# Altium integrated library Actel Fusion.IntLib: 336 symbols (part 53 of 69)

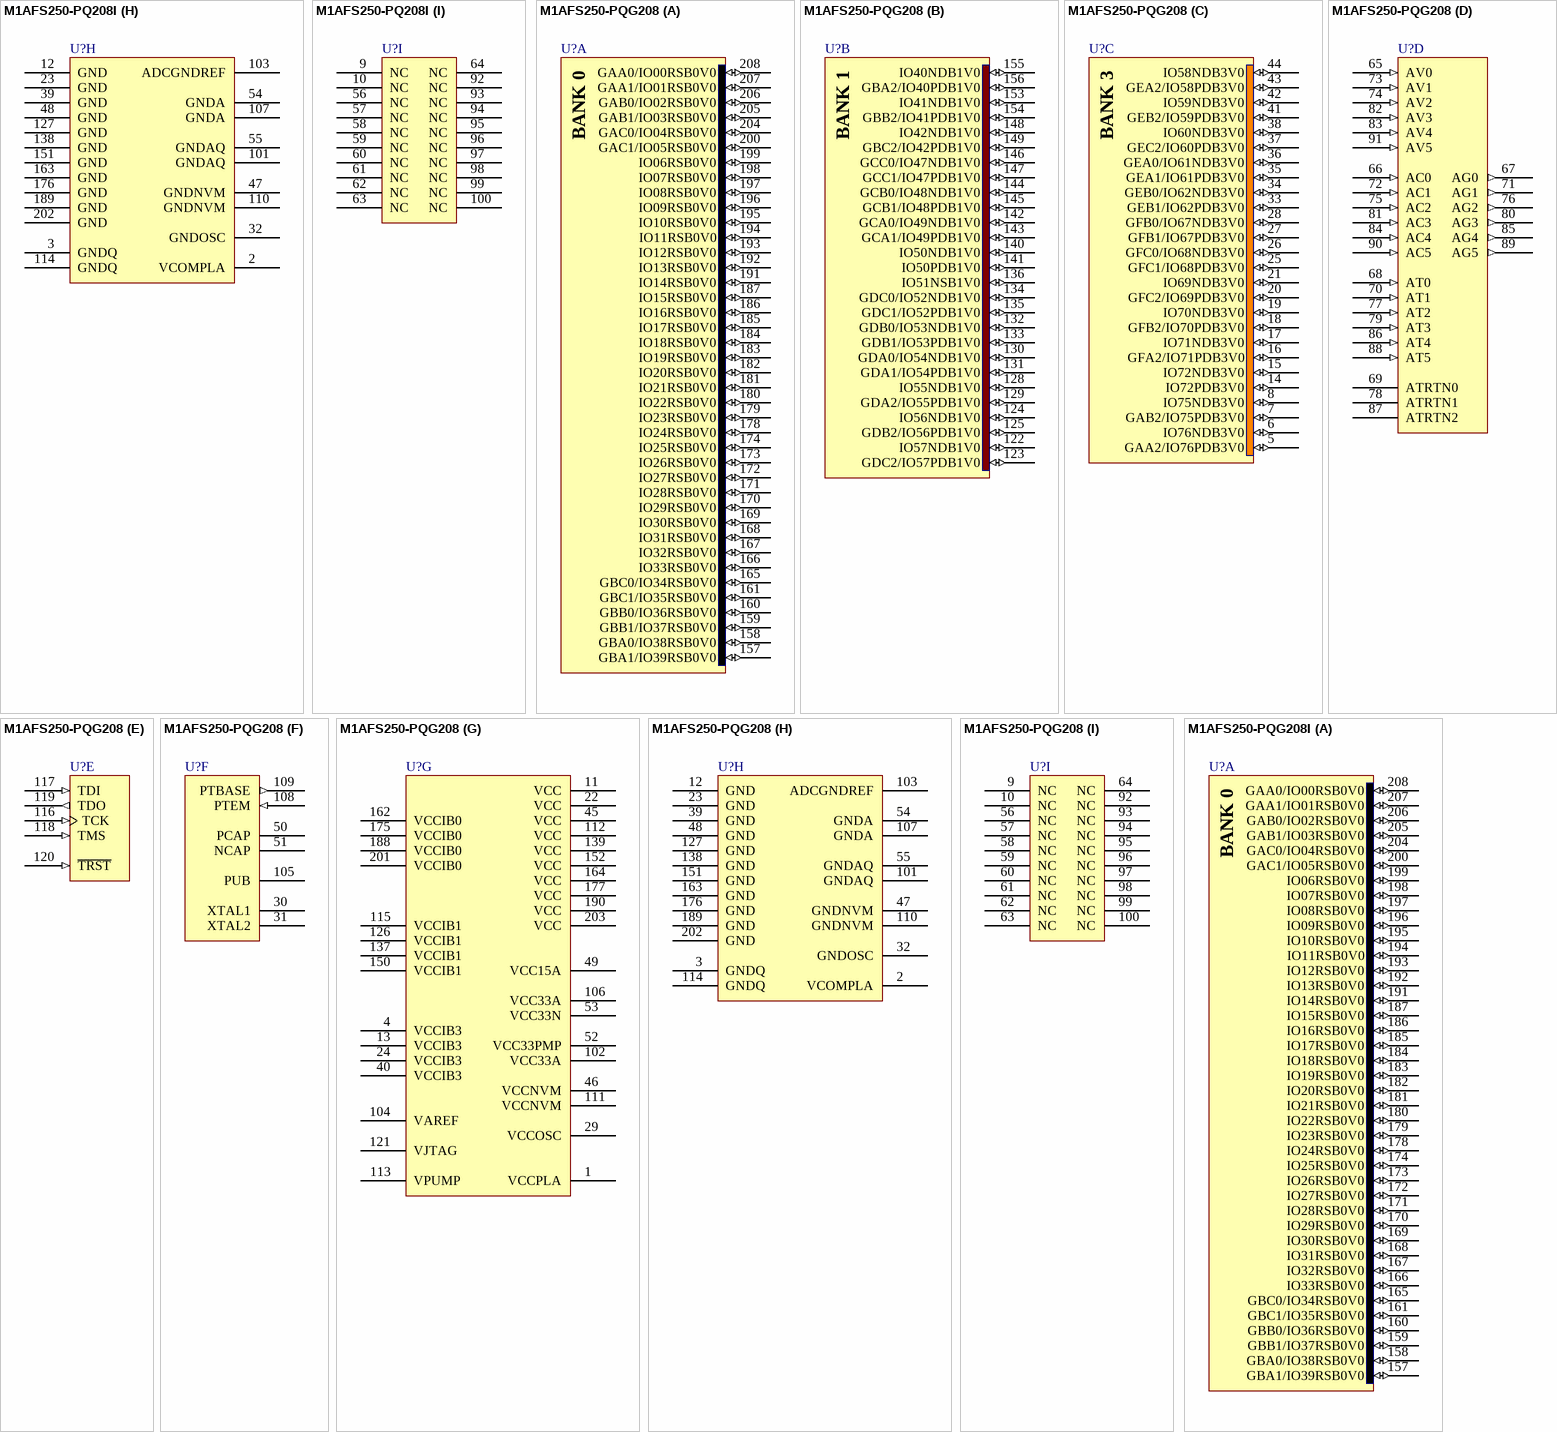
[diagram p168: symbols M1AFS250-PQ208I to M1AFS250-PQG208I]